# Altium footprint library UART_Module_TYPE22421.PcbLib: 5 footprints
Each footprint in its own frame and in the unit in brackets; x right, y up, seen from the top. Pads: shape width x height; smd on the part's side, far side on the other; paste and mask are expansions set on the pad; w line width, h text height; cw(c..) or ccw(c..) is an arc to the next point about the centre after c.
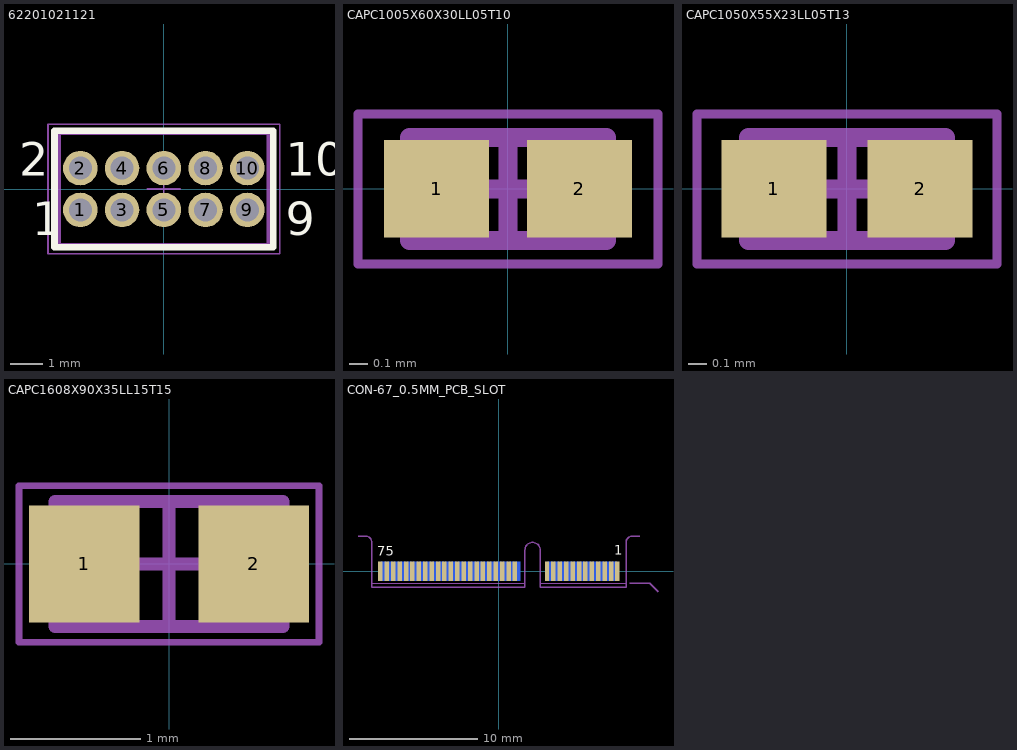
[diagram p0: the footprints below, top view; thin cyan lines are the x and y axes]

## 62201021121 [mm]
pads (10):
  round 1.05 hole 0.7: 1(-2.54,-0.635) 2(-2.54,0.635) 3(-1.27,-0.635) 4(-1.27,0.635) 5(0,-0.635) 6(0,0.635) 7(1.27,-0.635) 8(1.27,0.635) 9(2.54,-0.635) 10(2.54,0.635)
Top Overlay:
  lines w0.2: -3.325,-1.775 -3.325,1.775 3.325,1.775 3.325,-1.775 -3.325,-1.775
  text "9" at 3.705,-1.4 h1.02
  text "10" at 3.705,0.4 h1.02
  text "1" at -4.005,-1.4 h1.02
  text "2" at -4.405,0.4 h1.02
Mechanical 13:
  lines w0.1: -3.175,-1.7 -3.175,1.7 3.175,1.7 3.175,-1.7 -3.175,-1.7
Mechanical 15:
  lines w0.05: -0.5,0 0.5,0 ; 0,-0.5 0,0.5 ; -3.525,-1.975 -3.525,1.975 3.525,1.975 3.525,-1.975 -3.525,-1.975
3D body "62201021121.stp": height 5.33, standoff -2.27, extent -3.175,-1.7 3.175,1.7

## CAPC1005X60X30LL05T10 [mm]
pads (2):
  rect 0.56x0.52 smd: 1(-0.38,0) 2(0.38,0)
Mechanical 13:
  lines w0.1: -0.525,-0.275 0.525,-0.275 0.525,0.275 -0.525,0.275 -0.525,-0.275
Mechanical 15:
  lines w0.05: -0.8,-0.4 0.8,-0.4 0.8,0.4 -0.8,0.4 -0.8,-0.4
  lines w0.1: -0.275,0 0.275,0 ; 0,-0.275 0,0.275
3D body: height 0.6, standoff 0, extent 0.225,-0.275 0.525,0.275
3D body: height 0.6, standoff 0, extent -0.525,-0.275 -0.225,0.275
3D body: height 0.6, standoff 0, extent -0.225,-0.275 0.225,0.275

## CAPC1050X55X23LL05T13 [mm]
pads (2):
  rect 0.56x0.52 smd: 1(-0.39,0) 2(0.39,0)
Mechanical 13:
  lines w0.1: -0.525,-0.275 -0.525,0.275 0.525,0.275 0.525,-0.275 -0.525,-0.275
Mechanical 15:
  lines w0.05: -0.8,-0.4 -0.8,0.4 0.8,0.4 0.8,-0.4 -0.8,-0.4
  lines w0.1: -0.275,0 0.275,0 ; 0,-0.275 0,0.275
3D body: height 0.55, standoff 0, extent -0.295,-0.275 0.295,0.275
3D body: height 0.55, standoff 0, extent -0.525,-0.275 -0.295,0.275
3D body: height 0.55, standoff 0, extent 0.295,-0.275 0.525,0.275

## CAPC1608X90X35LL15T15 [mm]
pads (2):
  rect 0.85x0.9 smd: 1(-0.65,0) 2(0.65,0)
Mechanical 13:
  lines w0.1: -0.875,-0.48 -0.875,0.48 0.875,0.48 0.875,-0.48 -0.875,-0.48
Mechanical 15:
  lines w0.05: -1.15,-0.6 -1.15,0.6 1.15,0.6 1.15,-0.6 -1.15,-0.6
  lines w0.1: -0.48,0 0.48,0 ; 0,-0.48 0,0.48
3D body: height 0.9, standoff 0, extent -0.525,-0.48 0.525,0.48
3D body: height 0.9, standoff 0, extent -0.875,-0.48 -0.525,0.48
3D body: height 0.9, standoff 0, extent 0.525,-0.48 0.875,0.48

## CON-67_0.5MM_PCB_SLOT [mm]
pads (67):
  rect 0.35x1.5 smd: 1(9.25,0) 3(8.75,0) 5(8.25,0) 7(7.75,0) 9(7.25,0) 11(6.75,0) 13(6.25,0) 15(5.75,0) 17(5.25,0) 19(4.75,0) 21(4.25,0) 23(3.75,0) 33(1.25,0) 35(0.75,0) 37(0.25,0) 39(-0.25,0) 41(-0.75,0) 43(-1.25,0) 45(-1.75,0) 47(-2.25,0) 49(-2.75,0) 51(-3.25,0) 53(-3.75,0) 55(-4.25,0) 57(-4.75,0) 59(-5.25,0) 61(-5.75,0) 63(-6.25,0) 65(-6.75,0) 67(-7.25,0) 69(-7.75,0) 71(-8.25,0) 73(-8.75,0) 75(-9.25,0)
  rect 0.35x1.5 smd far side: 2(9,0) 4(8.5,0) 6(8,0) 8(7.5,0) 10(7,0) 12(6.5,0) 14(6,0) 16(5.5,0) 18(5,0) 20(4.5,0) 22(4,0) 32(1.5,0) 34(1,0) 36(0.5,0) 38(0,0) 40(-0.5,0) 42(-1,0) 44(-1.5,0) 46(-2,0) 48(-2.5,0) 50(-3,0) 52(-3.5,0) 54(-4,0) 56(-4.5,0) 58(-5,0) 60(-5.5,0) 62(-6,0) 64(-6.5,0) 66(-7,0) 68(-7.5,0) 70(-8,0) 72(-8.5,0) 74(-9,0)
Top Overlay:
  text "1" at 9,1.3 h0.75
  text "75" at -9.5,1.2 h0.75
Bottom Overlay:
  text "74" at -8.318,1.165 h0.75
  text "2" at 9.4,1.1 h0.75
Top Solder:
  region: -9.925,-1.25 9.925,-1.25 9.925,0.85 -9.925,0.85
Bottom Solder:
  region: -9.925,-1.25 9.925,-1.25 9.925,0.85 -9.925,0.85
Mechanical 1:
  lines w0.05: -9.925,-0.95 2.025,-0.95 ; 3.225,-0.95 9.925,-0.95
  lines w0.1: -11,2.75 -10.425,2.75 cw(c-10.425,2.25) -9.925,2.25 -9.925,-1.25 2.025,-1.25 2.025,1.65 cw(c2.625,1.65) 3.225,1.65 3.225,-1.25 9.925,-1.25 9.925,2.25 cw(c10.425,2.25) 10.425,2.75 11,2.75 ; 10.2,-0.95 11.75,-0.95 12.412,-1.612
  text "Board Edge" at -4,-2.9 h0.8
  text "All pads hard gold finished" at -14.8,-1.2 h0.5
  text "20-degree chamfered border from this line" at 10,-6.4 h0.5
  text "Final Board Thickness: 0.8 +-0.08mm" at -9.3,-5.1 h0.8